# EAGLE library part TEXAS_INSTRUMENTS-TVS_CLAMP-TPD3E001DRSR (library Module_ICs)
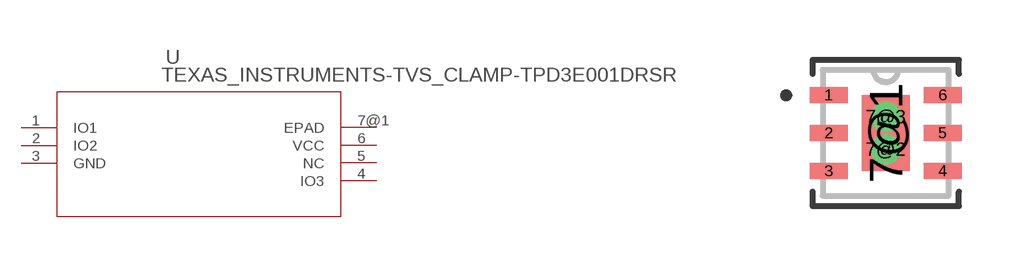
[diagram p76: symbol with the pads of DRS6_1P9X1P2; footprint DRS6_1P9X1P2]

Designator prefix U

## TEXAS_INSTRUMENTS-TVS_CLAMP-TPD3E001DRSR (DATASHEET_URL: http://www.ti.com/lit/gpn/TPD3E001; DESCRIPTION: Low-Capacitance 3-Channel +/-15KV ESD-Protection Array for High-Speed Data Interfaces; FAMILY_NAME: ESD Solution; GENERIC_PART_NUMBER: TPD3E001; INDUSTRY_STD_PKG_TYPE: SON; MANUFACTURER: Texas Instruments; MANUFACTURER_PART_NUMBER: TPD3E001DRSR; PACKAGE_DESIGNATOR: DRS; PIN_COUNT: 6; VENDOR: Texas Instruments)  [DRS6_1P9X1P2]
1  IO1
2  IO2
3  GND  pwr
4  IO3
5  NC  pas
6  VCC  pwr
7@1  EPAD  pas

## Footprint DRS6_1P9X1P2 (pad centres in mm)
smd 0.95 x 0.4: 1 -1.425,0.95; 2 -1.425,0; 3 -1.425,-0.95; 4 1.425,-0.95; 5 1.425,0; 6 1.425,0.95
smd 1.2 x 1.9: 7@1 0,0
drill 0.254 pad 0.508: 7@2 0,-0.406; 7@3 0,0.406